# EAGLE library part MCP49X1 (library SchmalzHausPublic)
MCP49x1 - 8, 10 or 12 bit SPI DAC from Microchip
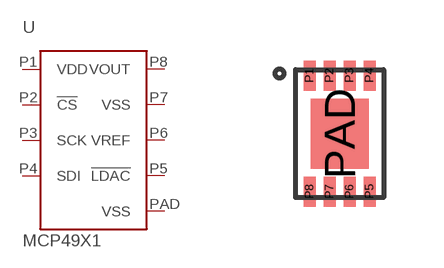
[diagram p7: symbol with the pads of 8DFN_MICROCHIP_2X3; footprint 8DFN_MICROCHIP_2X3]

Designator prefix -

## MCP49X1  [8DFN_MICROCHIP_2X3]
P1  VDD
P2  !CS!
P3  SCK
P4  SDI
P5  !LDAC!
P6  VREF
P7  VSS
P8  VOUT
PAD  VSS

## Footprint 8DFN_MICROCHIP_2X3 (pad centres in mm)
Microchip's 8-pin 2mm x 3mm DFN package
smd 0.3 x 0.75: P1 -0.75,1.45; P2 -0.25,1.45; P3 0.25,1.45; P4 0.75,1.45; P5 0.75,-1.45; P6 0.25,-1.45; P7 -0.25,-1.45; P8 -0.75,-1.45
smd 1.45 x 1.75: PAD 0,0